# EAGLE library part MA04-2 (library mylib)
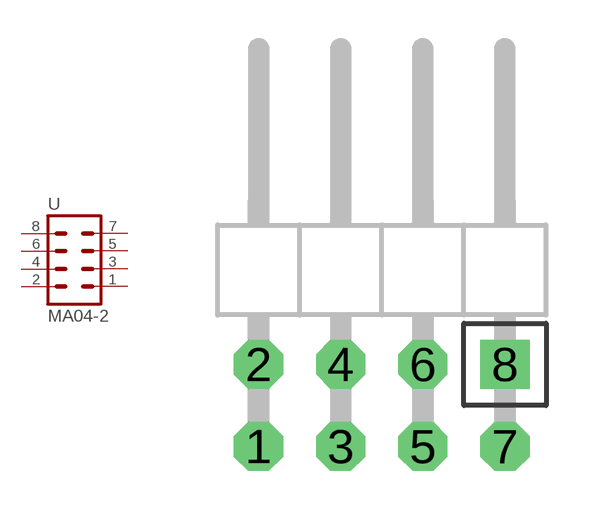
[diagram p3: symbol with the pads of MA04-2W; footprint MA04-2W]

Designator prefix -

## MA04-2  [MA04-2W]
1  1  pas
2  2  pas
3  3  pas
4  4  pas
5  5  pas
6  6  pas
7  7  pas
8  8  pas

## Footprint MA04-2W (pad centres in mm)
drill 1.016 octagon: 1 -3.81,-1.27; 2 -3.81,1.27; 3 -1.27,-1.27; 4 -1.27,1.27; 5 1.27,-1.27; 6 1.27,1.27; 7 3.81,-1.27
drill 1.016 square: 8 3.81,1.27